# Altium footprint library Pressure_Sensors.PcbLib: 1 footprints
Each footprint in its own frame and in the unit in brackets; x right, y up, seen from the top. Pads: shape width x height; smd on the part's side, far side on the other; paste and mask are expansions set on the pad; w line width, h text height; cw(c..) or ccw(c..) is an arc to the next point about the centre after c.
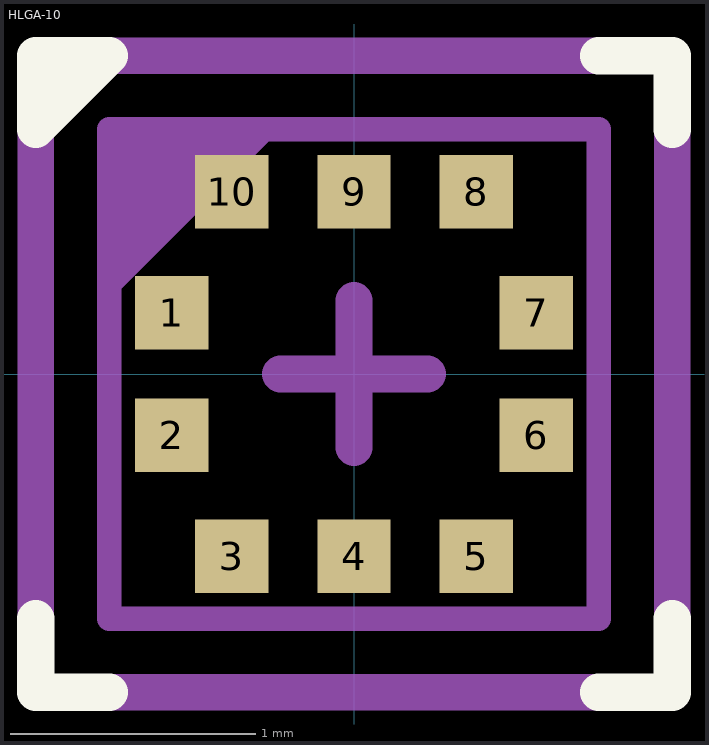
[diagram p0: the footprint, top view; thin cyan lines are the x and y axes]

## HLGA-10 [mm]
pads (10):
  rect 0.3x0.3 smd: 1(-0.745,0.25) 2(-0.745,-0.25) 3(-0.5,-0.745) 4(0,-0.745) 5(0.5,-0.745) 6(0.745,-0.25) 7(0.745,0.25) 8(0.5,0.745) 9(0,0.745) 10(-0.5,0.745)
Top Overlay:
  region: -1.3,1.3 -1.3,1 -1,1.3
  lines w0.153: -1.3,-1 -1.3,-1.3 -1,-1.3 ; 1,-1.3 1.3,-1.3 1.3,-1 ; 1,1.3 1.3,1.3 1.3,1 ; -1.3,1 -1.3,1.3 -1,1.3 -1.3,1
Top Assembly:
  region: -1,1 -0.3,1 -1,0.3
  lines w0.1: -1,-1 -1,1 1,1 1,-1 -1,-1
  text "'.Designator'" at -4.532,-0.333 h0.8
Top Courtyard (Mech6):
  lines w0.15: -1.3,-1.3 -1.3,1.3 1.3,1.3 1.3,-1.3 -1.3,-1.3
  lines w0.153: -0.3,0 0.3,0 ; 0,-0.3 0,0.3
3D body "LPS22HBTR.STEP": height 0.9, standoff 0.1, extent -1.001,-1.028 0.999,0.972